# EAGLE library part DISP_EINK_10BAR (library microbuilder)
eInk 10-Bar Display
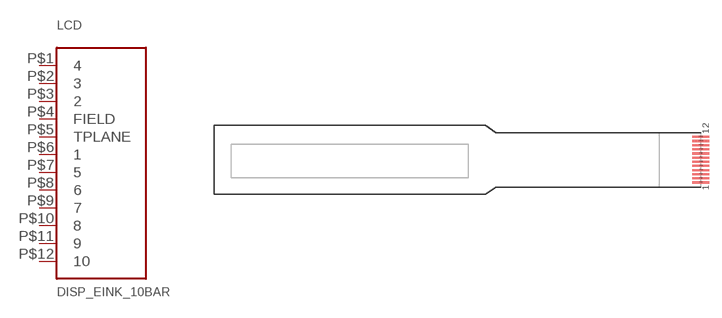
[diagram p121: symbol with the pads of EINK_10BAR; footprint EINK_10BAR]

Designator prefix LCD

## DISP_EINK_10BAR  [EINK_10BAR]
P$1  4
P$2  3
P$3  2
P$4  FIELD
P$5  TPLANE
P$6  1
P$7  5
P$8  6
P$9  7
P$10  8
P$11  9
P$12  10

## Footprint EINK_10BAR (pad centres in mm)
smd 2 x 0.25: P$1 0,1.4; P$2 0,1.9; P$3 0,2.4; P$4 0,2.9; P$5 0,3.4; P$6 0,3.9; P$7 0,4.4; P$8 0,4.9; P$9 0,5.4; P$10 0,5.9; P$11 0,6.4; P$12 0,6.9